# Altium footprint library COM_PcbLib.PcbLib: 25 footprints (part 2 of 2)
Each footprint in its own frame and in the unit in brackets; x right, y up, seen from the top. Pads: shape width x height; smd on the part's side, far side on the other; paste and mask are expansions set on the pad; w line width, h text height; cw(c..) or ccw(c..) is an arc to the next point about the centre after c.
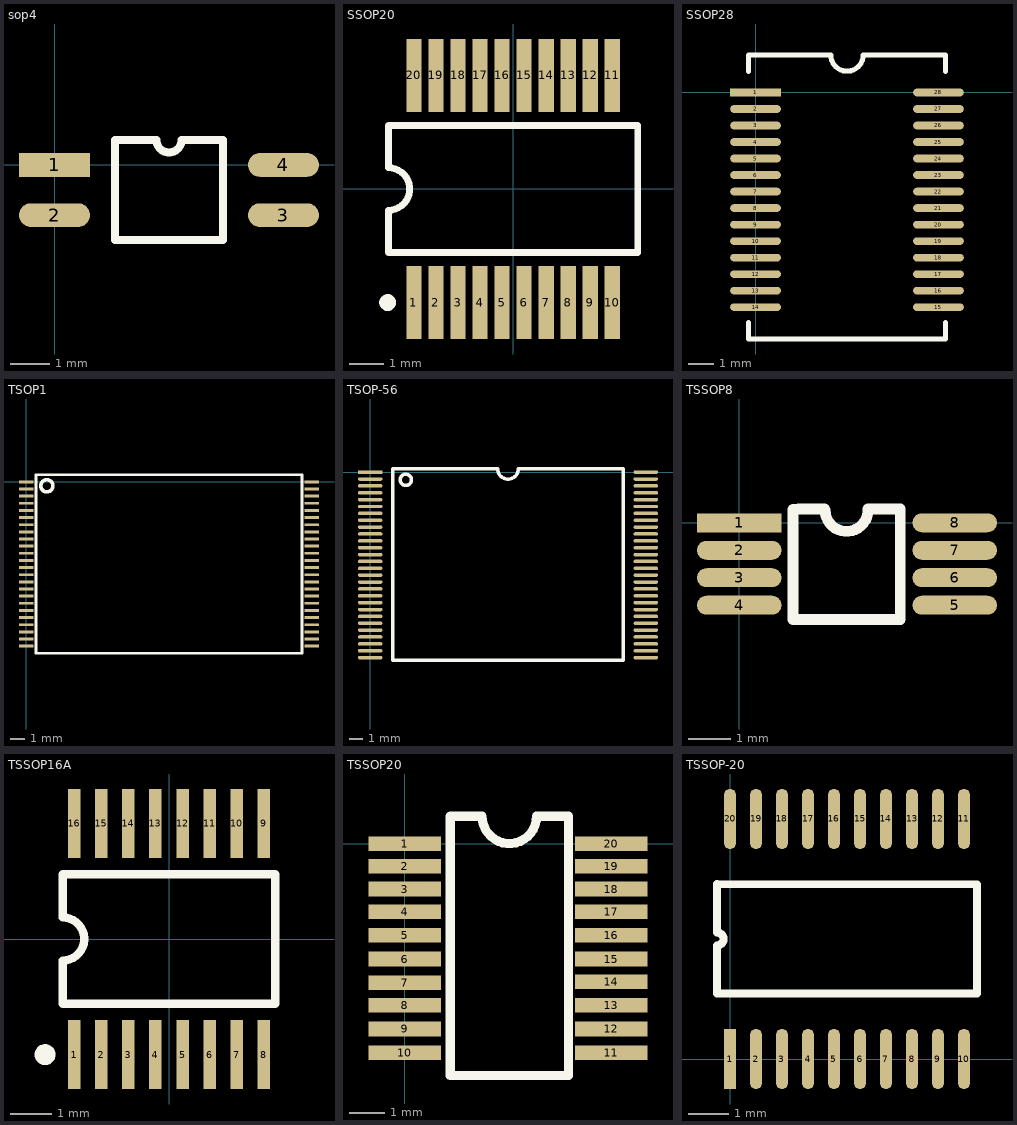
[diagram p1: the footprints below, top view; thin cyan lines are the x and y axes]

## sop4 [mm]
pads (4):
  rect 1.8x0.6 smd: 1(0,0)
  oval 1.8x0.6 smd: 2(0,-1.27) 3(5.8,-1.27) 4(5.8,0)
Top Overlay:
  lines w0.2: 1.535,-1.905 4.265,-1.905 4.265,0.635 3.217,0.635 cw(c2.9,0.635) 2.582,0.635 1.535,0.635 1.535,-1.905

## SSOP20 [mm]
pads (20):
  rect 0.45x2.15 smd: 1(-2.925,-3.35) 2(-2.275,-3.35) 3(-1.625,-3.35) 4(-0.975,-3.35) 5(-0.325,-3.35) 6(0.325,-3.35) 7(0.975,-3.35) 8(1.625,-3.35) 9(2.275,-3.35) 10(2.925,-3.35) 11(2.925,3.35) 12(2.275,3.35) 13(1.625,3.35) 14(0.975,3.35) 15(0.325,3.35) 16(-0.325,3.35) 17(-0.975,3.35) 18(-1.625,3.35) 19(-2.275,3.35) 20(-2.925,3.35)
Top Overlay:
  circle w0.25: c-3.7,-3.35 r0.125
  lines w0.2: -3.675,-1.875 -3.675,-0.625 ccw(c-3.675,0) -3.675,0.625 -3.675,1.875 3.675,1.875 3.675,-1.875 -3.675,-1.875

## SSOP28 [mm]
pads (28):
  rect 2x0.3 smd: 1(0,0)
  oval 2x0.3 smd: 2(0,-0.65) 3(0,-1.3) 4(0,-1.95) 5(0,-2.6) 6(0,-3.25) 7(0,-3.9) 8(0,-4.55) 9(0,-5.2) 10(0,-5.85) 11(0,-6.5) 12(0,-7.15) 13(0,-7.8) 14(0,-8.45) 15(7.2,-8.45) 16(7.2,-7.8) 17(7.2,-7.15) 18(7.2,-6.5) 19(7.2,-5.85) 20(7.2,-5.2) 21(7.2,-4.55) 22(7.2,-3.9) 23(7.2,-3.25) 24(7.2,-2.6) 25(7.2,-1.95) 26(7.2,-1.3) 27(7.2,-0.65) 28(7.2,0)
Top Overlay:
  lines w0.2: -0.275,-9.06 -0.275,-9.705 7.475,-9.705 7.475,-9.06 ; -0.275,0.825 -0.275,1.47 2.965,1.47 ccw(c3.6,1.47) 4.235,1.47 7.475,1.47 7.475,0.825

## TSOP1 [mm]
pads (48):
  rect 1x0.2 smd: 1(0,0) 2(0,-0.5) 3(0,-1) 4(0,-1.5) 5(0,-2) 6(0,-2.5) 7(0,-3) 8(0,-3.5) 9(0,-4) 10(0,-4.5) 11(0,-5) 12(0,-5.5) 13(0,-6) 14(0,-6.5) 15(0,-7) 16(0,-7.5) 17(0,-8) 18(0,-8.5) 19(0,-9) 20(0,-9.5) 21(0,-10) 22(0,-10.5) 23(0,-11) 24(0,-11.5) 25(20,-11.5) 26(20,-11) 27(20,-10.5) 28(20,-10) 29(20,-9.5) 30(20,-9) 31(20,-8.5) 32(20,-8) 33(20,-7.5) 34(20,-7) 35(20,-6.5) 36(20,-6) 37(20,-5.5) 38(20,-5) 39(20,-4.5) 40(20,-4) 41(20,-3.5) 42(20,-3) 43(20,-2.5) 44(20,-2) 45(20,-1.5) 46(20,-1) 47(20,-0.5) 48(20,0)
Top Overlay:
  circle w0.254: c1.449,-0.275 r0.426
  lines w0.203: 0.7,-12 19.3,-12 19.3,0.5 0.7,0.5 0.7,-12

## TSOP-56 [mil]
pads (56):
  rect 70x10 smd: 1(0,0)
  oval 70x10 smd: 2(0,-19.68) 3(0,-39.37) 4(0,-59.05) 5(0,-78.74) 6(0,-98.42) 7(0,-118.11) 8(0,-137.79) 9(0,-157.48) 10(0,-177.16) 11(0,-196.85) 12(0,-216.53) 13(0,-236.22) 14(0,-255.91) 15(0,-275.59) 16(0,-295.27) 17(0,-314.96) 18(0,-334.64) 19(0,-354.33) 20(0,-374.01) 21(0,-393.7) 22(0,-413.38) 23(0,-433.07) 24(0,-452.75) 25(0,-472.44) 26(0,-492.12) 27(0,-511.81) 28(0,-531.5) 29(790,-531.5) 30(790,-511.81) 31(790,-492.12) 32(790,-472.44) 33(790,-452.75) 34(790,-433.07) 35(790,-413.38) 36(790,-393.7) 37(790,-374.01) 38(790,-354.33) 39(790,-334.64) 40(790,-314.96) 41(790,-295.27) 42(790,-275.59) 43(790,-255.91) 44(790,-236.22) 45(790,-216.53) 46(790,-196.85) 47(790,-177.16) 48(790,-157.48) 49(790,-137.79) 50(790,-118.11) 51(790,-98.42) 52(790,-78.74) 53(790,-59.05) 54(790,-39.37) 55(790,-19.68) 56(790,0)
Top Overlay:
  circle w10: c101.88,-22 r16.12
  lines w10: 65,-538.74 725,-538.74 ; 65,-538 65,10 364.99,10 ccw(c394.99,10) 424.99,10 725,10 725,-538

## TSSOP8 [mm]
pads (8):
  rect 2x0.45 smd: 1(0,0)
  oval 2x0.45 smd: 2(0,-0.65) 3(0,-1.3) 4(0,-1.95) 5(5.1,-1.95) 6(5.1,-1.3) 7(5.1,-0.65) 8(5.1,0)
Top Overlay:
  lines w0.254: 2.016,0.325 1.408,0.325 1.27,0.314 1.27,-2.286 3.81,-2.286 3.81,0.325 3.048,0.325 ; 2.032,0.305 ccw(c2.54,0.305) 3.048,0.305

## TSSOP16A [mm] "Shrink Small Outline; 16 Leads; Body Width 4.4 mm; Pitch 0.65 mm"
height 1.1
pads (16):
  rect 0.3x1.65 smd: 1(-2.275,-2.775) 2(-1.625,-2.775) 3(-0.975,-2.775) 4(-0.325,-2.775) 5(0.325,-2.775) 6(0.975,-2.775) 7(1.625,-2.775) 8(2.275,-2.775) 9(2.275,2.775) 10(1.625,2.775) 11(0.975,2.775) 12(0.325,2.775) 13(-0.325,2.775) 14(-0.975,2.775) 15(-1.625,2.775) 16(-2.275,2.775)
Top Overlay:
  circle w0.25: c-2.975,-2.775 r0.125
  lines w0.2: -2.55,-1.55 -2.55,-0.517 ccw(c-2.55,0) -2.55,0.517 -2.55,1.55 2.55,1.55 2.55,-1.55 -2.55,-1.55

## TSSOP20 [mil]
pads (20):
  rect 80x16 smd: 1(0,0) 2(0,-25) 3(0,-50) 4(0,-75) 5(0,-101) 6(0,-127) 7(0,-153) 8(0,-178) 9(0,-204) 10(0,-230) 11(227,-230) 12(227,-204) 13(227,-178) 14(227,-152) 15(227,-127) 16(227,-101) 17(227,-75) 18(227,-50) 19(227,-25) 20(227,0)
Top Overlay:
  lines w10: 50,-255 180,-255 180,30 145,30 cw(c115,30) 85,30 50,30 50,-255

## TSSOP-20 [mm]
pads (20):
  rect 0.3x1.5 smd: 1(0,0)
  oval 0.3x1.5 smd: 2(0.65,0) 3(1.3,0) 4(1.95,0) 5(2.6,0) 6(3.25,0) 7(3.9,0) 8(4.55,0) 9(5.2,0) 10(5.85,0) 11(5.85,6) 12(5.2,6) 13(4.55,6) 14(3.9,6) 15(3.25,6) 16(2.6,6) 17(1.95,6) 18(1.3,6) 19(0.65,6) 20(0,6)
Top Overlay:
  lines w0.2: -0.325,1.635 6.175,1.635 6.175,4.365 -0.325,4.375 -0.325,3.163 cw(c-0.325,3) -0.325,2.838 -0.325,1.635